# EAGLE library part AS6C62256 (library dooba)
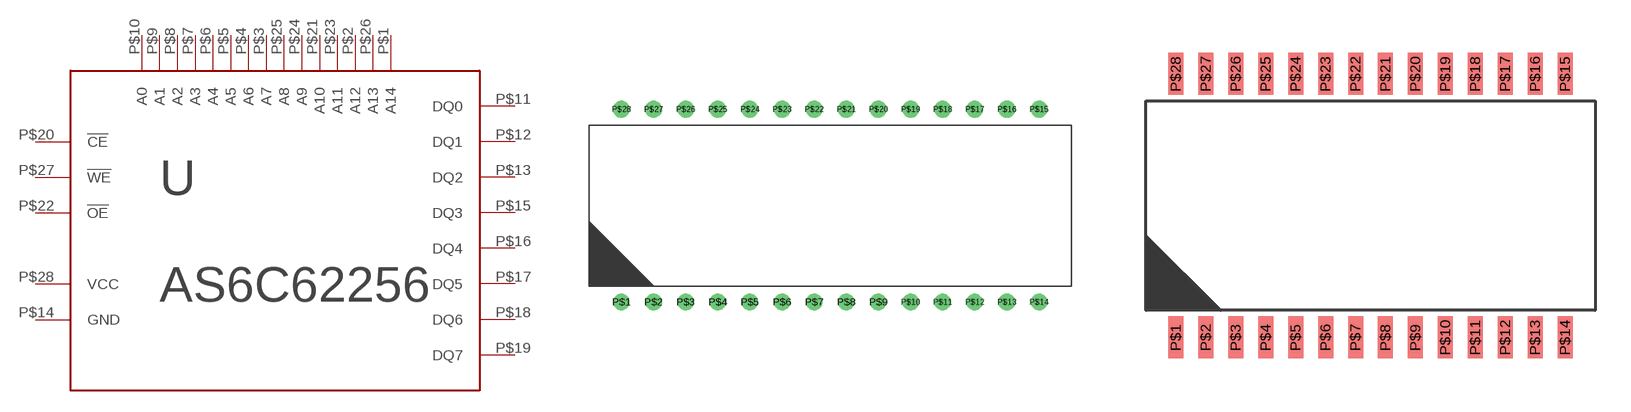
[diagram p52: symbol with the pads of PDIP28-600; footprints PDIP28-600, SOP28]

Designator prefix U

## AS6C62256PDIP  [PDIP28-600]
P$1  A14
P$2  A12
P$3  A7
P$4  A6
P$5  A5
P$6  A4
P$7  A3
P$8  A2
P$9  A1
P$10  A0
P$11  DQ0
P$12  DQ1
P$13  DQ2
P$14  GND
P$15  DQ3
P$16  DQ4
P$17  DQ5
P$18  DQ6
P$19  DQ7
P$20  !CE
P$21  A10
P$22  !OE
P$23  A11
P$24  A9
P$25  A8
P$26  A13
P$27  !WE
P$28  VCC

## AS6C62256SOP28  [SOP28]
Pads as for PDIP28-600

## Footprint PDIP28-600 (pad centres in mm)
drill 0.8: P$1 -16.51,-7.62; P$2 -13.97,-7.62; P$3 -11.43,-7.62; P$4 -8.89,-7.62; P$5 -6.35,-7.62; P$6 -3.81,-7.62; P$7 -1.27,-7.62; P$8 1.27,-7.62; P$9 3.81,-7.62; P$10 6.35,-7.62; P$11 8.89,-7.62; P$12 11.43,-7.62; P$13 13.97,-7.62; P$14 16.51,-7.62; P$15 16.51,7.62; P$16 13.97,7.62; P$17 11.43,7.62; P$18 8.89,7.62; P$19 6.35,7.62; P$20 3.81,7.62; P$21 1.27,7.62; P$22 -1.27,7.62; P$23 -3.81,7.62; P$24 -6.35,7.62; P$25 -8.89,7.62; P$26 -11.43,7.62; P$27 -13.97,7.62; P$28 -16.51,7.62

## Footprint SOP28 (pad centres in mm)
smd 0.635 x 1.778: P$1 -8.255,-5.588; P$2 -6.985,-5.588; P$3 -5.715,-5.588; P$4 -4.445,-5.588; P$5 -3.175,-5.588; P$6 -1.905,-5.588; P$7 -0.635,-5.588; P$8 0.635,-5.588; P$9 1.905,-5.588; P$10 3.175,-5.588; P$11 4.445,-5.588; P$12 5.715,-5.588; P$13 6.985,-5.588; P$14 8.255,-5.588; P$15 8.255,5.588; P$16 6.985,5.588; P$17 5.715,5.588; P$18 4.445,5.588; P$19 3.175,5.588; P$20 1.905,5.588; P$21 0.635,5.588; P$22 -0.635,5.588; P$23 -1.905,5.588; P$24 -3.175,5.588; P$25 -4.445,5.588; P$26 -5.715,5.588; P$27 -6.985,5.588; P$28 -8.255,5.588